# EAGLE library part 693023010811 (library Wurth_Elektronik_Electromechanic_Input-Output_Connectors_rev15c)
WR-CRD_Micro SIM_Push & Pull_w Card Detection_SMT Micro SIM Push & Pull Type SMT - with Card Detection - 1.27mm Height Code:Con_I-O_COM_CRD_SIM_Micro_693023010811_693023010811 <http://katalog.we-online.de/media/images/eican/Con_I-O_COM_CRD_SIM_Micro_693023010811_pf2.jpg> Details see: http://katalog.we-online.de/en/em/693_023_010_811/693_023_010_811?m Created 2014-12-22, aslant tao 2014 (C) Würth Elektronik
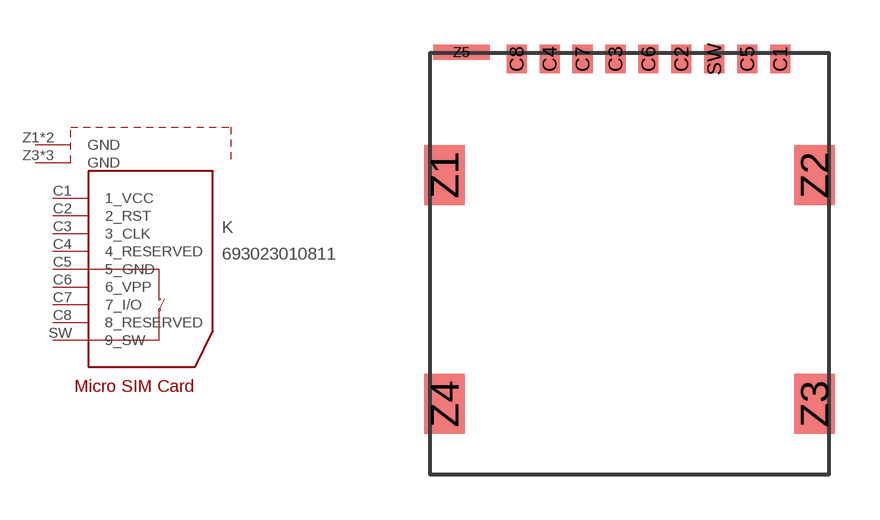
[diagram p150: symbol with the pads of 693023010811; footprint 693023010811]

Designator prefix K

## 693023010811  [693023010811]
C1  1_VCC
C2  2_RST
C3  3_CLK
C4  4_RESERVED
C5  5_GND
C6  6_VPP
C7  7_I/O
C8  8_RESERVED
SW  9_SW
Z1  GND
Z2  GND
Z3  GND
Z4  GND
Z5  GND

## Footprint 693023010811 (pad centres in mm)
smd 0.67 x 0.95: C1 5.03,0; C2 1.73,0; C3 -0.47,0; C4 -2.67,0; C5 3.93,0; C6 0.63,0; C7 -1.57,0; C8 -3.77,0; SW 2.83,0
smd 1.35 x 2: Z1 -6.175,-3.875; Z2 6.175,-3.875; Z3 6.175,-11.525; Z4 -6.175,-11.525
smd 1.88 x 0.5: Z5 -5.61,0.225